# Altium footprint library FTSH-105-01-L-DV-K-TR.PcbLib: 1 footprints
Each footprint in its own frame and in the unit in brackets; x right, y up, seen from the top. Pads: shape width x height; smd on the part's side, far side on the other; paste and mask are expansions set on the pad; w line width, h text height; cw(c..) or ccw(c..) is an arc to the next point about the centre after c.
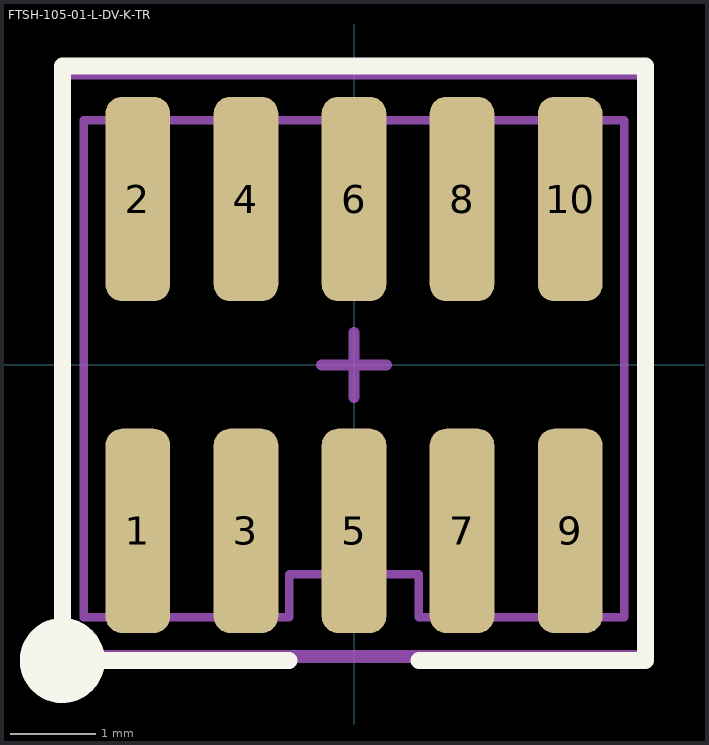
[diagram p0: the footprint, top view; thin cyan lines are the x and y axes]

## FTSH-105-01-L-DV-K-TR [mm] "CONN HEADER SMD 10POS 1.27MM"
pads (10):
  rrect50% 0.76x2.4 smd mask+0.05: 1(-2.54,-1.95) 2(-2.54,1.95) 3(-1.27,-1.95) 4(-1.27,1.95) 5(0,-1.95) 6(0,1.95) 7(1.27,-1.95) 8(1.27,1.95) 9(2.54,-1.95) 10(2.54,1.95)
Top Overlay:
  circle w0.5: c-3.429,-3.474 r0.25
  lines w0.2: -0.762,-3.474 -3.429,-3.474 -3.429,3.511 3.429,3.511 3.429,-3.474 0.762,-3.474
Top Courtyard:
  lines w0.127: -0.381,0 0.381,0 ; 0,-0.381 0,0.381
  lines w0.152: -3.429,-3.429 -3.429,3.429 3.429,3.429 3.429,-3.429 -3.429,-3.429
Top Assembly:
  circle w0.3: c-2.54,-1.95 r0.2
  lines w0.1: 3.175,-2.751 3.175,2.876 -3.175,2.876 -3.175,-2.966 -0.762,-2.966 -0.762,-2.458 0.762,-2.458 0.762,-2.966 3.175,-2.966 3.175,-2.751 ; 3.175,-2.751 3.175,-2.751 ; 3.175,-2.751 3.175,-2.751 ; 3.175,-2.751 3.175,-2.751 ; 3.175,-2.751 3.175,-2.751
3D body "FTSH-105-01-L-DV-K-TR.stp": height 6.11, standoff -0.01, extent -3.175,-2.966 3.175,2.876